# Altium footprint library IPC-SM-782 Section 9.4 TSSOP.PcbLib: 16 footprints
Each footprint in its own frame and in the unit in brackets; x right, y up, seen from the top. Pads: shape width x height; smd on the part's side, far side on the other; paste and mask are expansions set on the pad; w line width, h text height; cw(c..) or ccw(c..) is an arc to the next point about the centre after c.
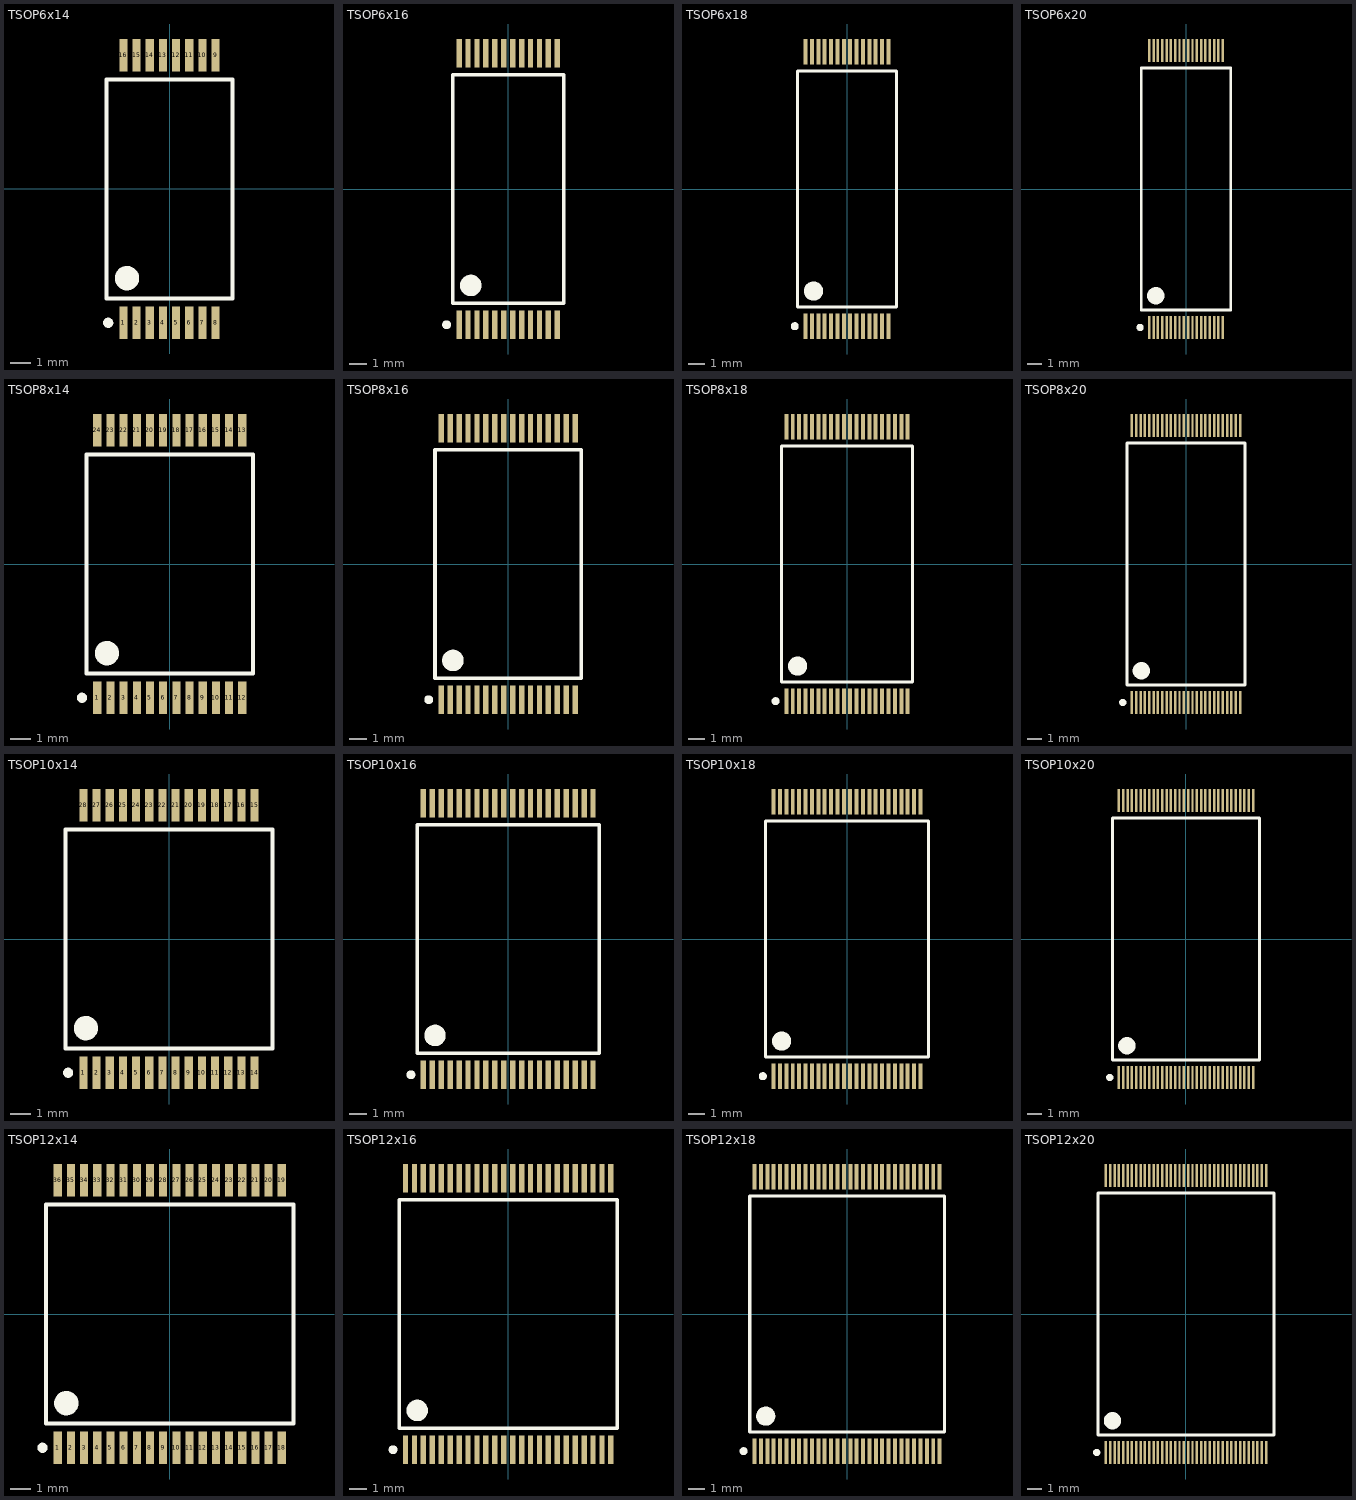
[diagram p0: the footprints below, top view; thin cyan lines are the x and y axes]

## TSOP6x14 [mm] "Shrink Small Outline; 16 Leads; Body Width 12.4 mm; Pitch 0.65 mm"
height 1.27
pads (16):
  rect 0.4x1.6 smd: 1(-2.275,-6.6) 2(-1.625,-6.6) 3(-0.975,-6.6) 4(-0.325,-6.6) 5(0.325,-6.6) 6(0.975,-6.6) 7(1.625,-6.6) 8(2.275,-6.6) 9(2.275,6.6) 10(1.625,6.6) 11(0.975,6.6) 12(0.325,6.6) 13(-0.325,6.6) 14(-0.975,6.6) 15(-1.625,6.6) 16(-2.275,6.6)
Top Overlay:
  circle w0.25: c-3.025,-6.6 r0.125
  circle w0.6: c-2.1,-4.4 r0.3
  lines w0.2: -3.1,-5.4 -3.1,-0.635 -3.1,5.4 3.1,5.4 3.1,-5.4 -3.1,-5.4

## TSOP6x16 [mm] "Shrink Small Outline; 24 Leads; Body Width 14.4 mm; Pitch 0.5 mm"
height 1.27
pads (24):
  rect 0.3x1.6 smd: 1(-2.75,-7.6) 2(-2.25,-7.6) 3(-1.75,-7.6) 4(-1.25,-7.6) 5(-0.75,-7.6) 6(-0.25,-7.6) 7(0.25,-7.6) 8(0.75,-7.6) 9(1.25,-7.6) 10(1.75,-7.6) 11(2.25,-7.6) 12(2.75,-7.6) 13(2.75,7.6) 14(2.25,7.6) 15(1.75,7.6) 16(1.25,7.6) 17(0.75,7.6) 18(0.25,7.6) 19(-0.25,7.6) 20(-0.75,7.6) 21(-1.25,7.6) 22(-1.75,7.6) 23(-2.25,7.6) 24(-2.75,7.6)
Top Overlay:
  circle w0.25: c-3.45,-7.6 r0.125
  circle w0.6: c-2.1,-5.4 r0.3
  lines w0.2: -3.1,-6.4 -3.1,-0.635 -3.1,6.4 3.1,6.4 3.1,-6.4 -3.1,-6.4

## TSOP6x18 [mm] "Shrink Small Outline; 28 Leads; Body Width 16.4 mm; Pitch 0.4 mm"
height 1.27
pads (28):
  rect 0.25x1.6 smd: 1(-2.6,-8.6) 2(-2.2,-8.6) 3(-1.8,-8.6) 4(-1.4,-8.6) 5(-1,-8.6) 6(-0.6,-8.6) 7(-0.2,-8.6) 8(0.2,-8.6) 9(0.6,-8.6) 10(1,-8.6) 11(1.4,-8.6) 12(1.8,-8.6) 13(2.2,-8.6) 14(2.6,-8.6) 15(2.6,8.6) 16(2.2,8.6) 17(1.8,8.6) 18(1.4,8.6) 19(1,8.6) 20(0.6,8.6) 21(0.2,8.6) 22(-0.2,8.6) 23(-0.6,8.6) 24(-1,8.6) 25(-1.4,8.6) 26(-1.8,8.6) 27(-2.2,8.6) 28(-2.6,8.6)
Top Overlay:
  circle w0.25: c-3.275,-8.6 r0.125
  circle w0.6: c-2.1,-6.4 r0.3
  lines w0.2: -3.1,-7.4 -3.1,-0.635 -3.1,7.4 3.1,7.4 3.1,-7.4 -3.1,-7.4

## TSOP6x20 [mm] "Shrink Small Outline; 36 Leads; Body Width 18.4 mm; Pitch 0.3 mm"
height 1.27
pads (36):
  rect 0.17x1.6 smd: 1(-2.55,-9.6) 2(-2.25,-9.6) 3(-1.95,-9.6) 4(-1.65,-9.6) 5(-1.35,-9.6) 6(-1.05,-9.6) 7(-0.75,-9.6) 8(-0.45,-9.6) 9(-0.15,-9.6) 10(0.15,-9.6) 11(0.45,-9.6) 12(0.75,-9.6) 13(1.05,-9.6) 14(1.35,-9.6) 15(1.65,-9.6) 16(1.95,-9.6) 17(2.25,-9.6) 18(2.55,-9.6) 19(2.55,9.6) 20(2.25,9.6) 21(1.95,9.6) 22(1.65,9.6) 23(1.35,9.6) 24(1.05,9.6) 25(0.75,9.6) 26(0.45,9.6) 27(0.15,9.6) 28(-0.15,9.6) 29(-0.45,9.6) 30(-0.75,9.6) 31(-1.05,9.6) 32(-1.35,9.6) 33(-1.65,9.6) 34(-1.95,9.6) 35(-2.25,9.6) 36(-2.55,9.6)
Top Overlay:
  circle w0.6: c-2.1,-7.4 r0.3
  circle w0.25: c-3.185,-9.6 r0.125
  lines w0.2: -3.1,-8.4 3.1,-8.4 3.1,8.4 -3.1,8.4 -3.1,-0.635 -3.1,-8.4

## TSOP8x14 [mm] "Shrink Small Outline; 24 Leads; Body Width 12.4 mm; Pitch 0.65 mm"
height 1.27
pads (24):
  rect 0.4x1.6 smd: 1(-3.575,-6.6) 2(-2.925,-6.6) 3(-2.275,-6.6) 4(-1.625,-6.6) 5(-0.975,-6.6) 6(-0.325,-6.6) 7(0.325,-6.6) 8(0.975,-6.6) 9(1.625,-6.6) 10(2.275,-6.6) 11(2.925,-6.6) 12(3.575,-6.6) 13(3.575,6.6) 14(2.925,6.6) 15(2.275,6.6) 16(1.625,6.6) 17(0.975,6.6) 18(0.325,6.6) 19(-0.325,6.6) 20(-0.975,6.6) 21(-1.625,6.6) 22(-2.275,6.6) 23(-2.925,6.6) 24(-3.575,6.6)
Top Overlay:
  circle w0.6: c-3.1,-4.4 r0.3
  circle w0.25: c-4.325,-6.6 r0.125
  lines w0.2: -4.1,-5.4 4.1,-5.4 4.1,5.4 -4.1,5.4 -4.1,-0.635 -4.1,-5.4

## TSOP8x16 [mm] "Shrink Small Outline; 32 Leads; Body Width 14.4 mm; Pitch 0.5 mm"
height 1.27
pads (32):
  rect 0.3x1.6 smd: 1(-3.75,-7.6) 2(-3.25,-7.6) 3(-2.75,-7.6) 4(-2.25,-7.6) 5(-1.75,-7.6) 6(-1.25,-7.6) 7(-0.75,-7.6) 8(-0.25,-7.6) 9(0.25,-7.6) 10(0.75,-7.6) 11(1.25,-7.6) 12(1.75,-7.6) 13(2.25,-7.6) 14(2.75,-7.6) 15(3.25,-7.6) 16(3.75,-7.6) 17(3.75,7.6) 18(3.25,7.6) 19(2.75,7.6) 20(2.25,7.6) 21(1.75,7.6) 22(1.25,7.6) 23(0.75,7.6) 24(0.25,7.6) 25(-0.25,7.6) 26(-0.75,7.6) 27(-1.25,7.6) 28(-1.75,7.6) 29(-2.25,7.6) 30(-2.75,7.6) 31(-3.25,7.6) 32(-3.75,7.6)
Top Overlay:
  circle w0.6: c-3.1,-5.4 r0.3
  circle w0.25: c-4.45,-7.6 r0.125
  lines w0.2: -4.1,-6.4 4.1,-6.4 4.1,6.4 -4.1,6.4 -4.1,-0.635 -4.1,-6.4

## TSOP8x18 [mm] "Shrink Small Outline; 40 Leads; Body Width 16.4 mm; Pitch 0.4 mm"
height 1.27
pads (40):
  rect 0.25x1.6 smd: 1(-3.8,-8.6) 2(-3.4,-8.6) 3(-3,-8.6) 4(-2.6,-8.6) 5(-2.2,-8.6) 6(-1.8,-8.6) 7(-1.4,-8.6) 8(-1,-8.6) 9(-0.6,-8.6) 10(-0.2,-8.6) 11(0.2,-8.6) 12(0.6,-8.6) 13(1,-8.6) 14(1.4,-8.6) 15(1.8,-8.6) 16(2.2,-8.6) 17(2.6,-8.6) 18(3,-8.6) 19(3.4,-8.6) 20(3.8,-8.6) 21(3.8,8.6) 22(3.4,8.6) 23(3,8.6) 24(2.6,8.6) 25(2.2,8.6) 26(1.8,8.6) 27(1.4,8.6) 28(1,8.6) 29(0.6,8.6) 30(0.2,8.6) 31(-0.2,8.6) 32(-0.6,8.6) 33(-1,8.6) 34(-1.4,8.6) 35(-1.8,8.6) 36(-2.2,8.6) 37(-2.6,8.6) 38(-3,8.6) 39(-3.4,8.6) 40(-3.8,8.6)
Top Overlay:
  circle w0.6: c-3.1,-6.4 r0.3
  circle w0.25: c-4.475,-8.6 r0.125
  lines w0.2: -4.1,-7.4 4.1,-7.4 4.1,7.4 -4.1,7.4 -4.1,-0.635 -4.1,-7.4

## TSOP8x20 [mm] "Shrink Small Outline; 52 Leads; Body Width 18.4 mm; Pitch 0.3 mm"
height 1.27
pads (52):
  rect 0.17x1.6 smd: 1(-3.75,-9.6) 2(-3.45,-9.6) 3(-3.15,-9.6) 4(-2.85,-9.6) 5(-2.55,-9.6) 6(-2.25,-9.6) 7(-1.95,-9.6) 8(-1.65,-9.6) 9(-1.35,-9.6) 10(-1.05,-9.6) 11(-0.75,-9.6) 12(-0.45,-9.6) 13(-0.15,-9.6) 14(0.15,-9.6) 15(0.45,-9.6) 16(0.75,-9.6) 17(1.05,-9.6) 18(1.35,-9.6) 19(1.65,-9.6) 20(1.95,-9.6) 21(2.25,-9.6) 22(2.55,-9.6) 23(2.85,-9.6) 24(3.15,-9.6) 25(3.45,-9.6) 26(3.75,-9.6) 27(3.75,9.6) 28(3.45,9.6) 29(3.15,9.6) 30(2.85,9.6) 31(2.55,9.6) 32(2.25,9.6) 33(1.95,9.6) 34(1.65,9.6) 35(1.35,9.6) 36(1.05,9.6) 37(0.75,9.6) 38(0.45,9.6) 39(0.15,9.6) 40(-0.15,9.6) 41(-0.45,9.6) 42(-0.75,9.6) 43(-1.05,9.6) 44(-1.35,9.6) 45(-1.65,9.6) 46(-1.95,9.6) 47(-2.25,9.6) 48(-2.55,9.6) 49(-2.85,9.6) 50(-3.15,9.6) 51(-3.45,9.6) 52(-3.75,9.6)
Top Overlay:
  circle w0.25: c-4.385,-9.6 r0.125
  circle w0.6: c-3.1,-7.4 r0.3
  lines w0.2: -4.1,-8.4 -4.1,-0.635 -4.1,8.4 4.1,8.4 4.1,-8.4 -4.1,-8.4

## TSOP10x14 [mm] "Shrink Small Outline; 28 Leads; Body Width 12.4 mm; Pitch 0.65 mm"
height 1.27
pads (28):
  rect 0.4x1.6 smd: 1(-4.225,-6.6) 2(-3.575,-6.6) 3(-2.925,-6.6) 4(-2.275,-6.6) 5(-1.625,-6.6) 6(-0.975,-6.6) 7(-0.325,-6.6) 8(0.325,-6.6) 9(0.975,-6.6) 10(1.625,-6.6) 11(2.275,-6.6) 12(2.925,-6.6) 13(3.575,-6.6) 14(4.225,-6.6) 15(4.225,6.6) 16(3.575,6.6) 17(2.925,6.6) 18(2.275,6.6) 19(1.625,6.6) 20(0.975,6.6) 21(0.325,6.6) 22(-0.325,6.6) 23(-0.975,6.6) 24(-1.625,6.6) 25(-2.275,6.6) 26(-2.925,6.6) 27(-3.575,6.6) 28(-4.225,6.6)
Top Overlay:
  circle w0.6: c-4.1,-4.4 r0.3
  circle w0.25: c-4.975,-6.6 r0.125
  lines w0.2: -5.1,-5.4 5.1,-5.4 5.1,5.4 -5.1,5.4 -5.1,-0.635 -5.1,-5.4

## TSOP10x16 [mm] "Shrink Small Outline; 40 Leads; Body Width 14.4 mm; Pitch 0.5 mm"
height 1.27
pads (40):
  rect 0.3x1.6 smd: 1(-4.75,-7.6) 2(-4.25,-7.6) 3(-3.75,-7.6) 4(-3.25,-7.6) 5(-2.75,-7.6) 6(-2.25,-7.6) 7(-1.75,-7.6) 8(-1.25,-7.6) 9(-0.75,-7.6) 10(-0.25,-7.6) 11(0.25,-7.6) 12(0.75,-7.6) 13(1.25,-7.6) 14(1.75,-7.6) 15(2.25,-7.6) 16(2.75,-7.6) 17(3.25,-7.6) 18(3.75,-7.6) 19(4.25,-7.6) 20(4.75,-7.6) 21(4.75,7.6) 22(4.25,7.6) 23(3.75,7.6) 24(3.25,7.6) 25(2.75,7.6) 26(2.25,7.6) 27(1.75,7.6) 28(1.25,7.6) 29(0.75,7.6) 30(0.25,7.6) 31(-0.25,7.6) 32(-0.75,7.6) 33(-1.25,7.6) 34(-1.75,7.6) 35(-2.25,7.6) 36(-2.75,7.6) 37(-3.25,7.6) 38(-3.75,7.6) 39(-4.25,7.6) 40(-4.75,7.6)
Top Overlay:
  circle w0.25: c-5.45,-7.6 r0.125
  circle w0.6: c-4.1,-5.4 r0.3
  lines w0.2: -5.1,-6.4 -5.1,-0.635 -5.1,6.4 5.1,6.4 5.1,-6.4 -5.1,-6.4

## TSOP10x18 [mm] "Shrink Small Outline; 48 Leads; Body Width 16.4 mm; Pitch 0.4 mm"
height 1.27
pads (48):
  rect 0.25x1.6 smd: 1(-4.6,-8.6) 2(-4.2,-8.6) 3(-3.8,-8.6) 4(-3.4,-8.6) 5(-3,-8.6) 6(-2.6,-8.6) 7(-2.2,-8.6) 8(-1.8,-8.6) 9(-1.4,-8.6) 10(-1,-8.6) 11(-0.6,-8.6) 12(-0.2,-8.6) 13(0.2,-8.6) 14(0.6,-8.6) 15(1,-8.6) 16(1.4,-8.6) 17(1.8,-8.6) 18(2.2,-8.6) 19(2.6,-8.6) 20(3,-8.6) 21(3.4,-8.6) 22(3.8,-8.6) 23(4.2,-8.6) 24(4.6,-8.6) 25(4.6,8.6) 26(4.2,8.6) 27(3.8,8.6) 28(3.4,8.6) 29(3,8.6) 30(2.6,8.6) 31(2.2,8.6) 32(1.8,8.6) 33(1.4,8.6) 34(1,8.6) 35(0.6,8.6) 36(0.2,8.6) 37(-0.2,8.6) 38(-0.6,8.6) 39(-1,8.6) 40(-1.4,8.6) 41(-1.8,8.6) 42(-2.2,8.6) 43(-2.6,8.6) 44(-3,8.6) 45(-3.4,8.6) 46(-3.8,8.6) 47(-4.2,8.6) 48(-4.6,8.6)
Top Overlay:
  circle w0.6: c-4.1,-6.4 r0.3
  circle w0.25: c-5.275,-8.6 r0.125
  lines w0.2: -5.1,-7.4 5.1,-7.4 5.1,7.4 -5.1,7.4 -5.1,-0.635 -5.1,-7.4

## TSOP10x20 [mm] "Shrink Small Outline; 64 Leads; Body Width 18.4 mm; Pitch 0.3 mm"
height 1.27
pads (64):
  rect 0.17x1.6 smd: 1(-4.65,-9.6) 2(-4.35,-9.6) 3(-4.05,-9.6) 4(-3.75,-9.6) 5(-3.45,-9.6) 6(-3.15,-9.6) 7(-2.85,-9.6) 8(-2.55,-9.6) 9(-2.25,-9.6) 10(-1.95,-9.6) 11(-1.65,-9.6) 12(-1.35,-9.6) 13(-1.05,-9.6) 14(-0.75,-9.6) 15(-0.45,-9.6) 16(-0.15,-9.6) 17(0.15,-9.6) 18(0.45,-9.6) 19(0.75,-9.6) 20(1.05,-9.6) 21(1.35,-9.6) 22(1.65,-9.6) 23(1.95,-9.6) 24(2.25,-9.6) 25(2.55,-9.6) 26(2.85,-9.6) 27(3.15,-9.6) 28(3.45,-9.6) 29(3.75,-9.6) 30(4.05,-9.6) 31(4.35,-9.6) 32(4.65,-9.6) 33(4.65,9.6) 34(4.35,9.6) 35(4.05,9.6) 36(3.75,9.6) 37(3.45,9.6) 38(3.15,9.6) 39(2.85,9.6) 40(2.55,9.6) 41(2.25,9.6) 42(1.95,9.6) 43(1.65,9.6) 44(1.35,9.6) 45(1.05,9.6) 46(0.75,9.6) 47(0.45,9.6) 48(0.15,9.6) 49(-0.15,9.6) 50(-0.45,9.6) 51(-0.75,9.6) 52(-1.05,9.6) 53(-1.35,9.6) 54(-1.65,9.6) 55(-1.95,9.6) 56(-2.25,9.6) 57(-2.55,9.6) 58(-2.85,9.6) 59(-3.15,9.6) 60(-3.45,9.6) 61(-3.75,9.6) 62(-4.05,9.6) 63(-4.35,9.6) 64(-4.65,9.6)
Top Overlay:
  circle w0.6: c-4.1,-7.4 r0.3
  circle w0.25: c-5.285,-9.6 r0.125
  lines w0.2: -5.1,-8.4 5.1,-8.4 5.1,8.4 -5.1,8.4 -5.1,-0.635 -5.1,-8.4

## TSOP12x14 [mm] "Shrink Small Outline; 36 Leads; Body Width 12.4 mm; Pitch 0.65 mm"
height 1.27
pads (36):
  rect 0.4x1.6 smd: 1(-5.525,-6.6) 2(-4.875,-6.6) 3(-4.225,-6.6) 4(-3.575,-6.6) 5(-2.925,-6.6) 6(-2.275,-6.6) 7(-1.625,-6.6) 8(-0.975,-6.6) 9(-0.325,-6.6) 10(0.325,-6.6) 11(0.975,-6.6) 12(1.625,-6.6) 13(2.275,-6.6) 14(2.925,-6.6) 15(3.575,-6.6) 16(4.225,-6.6) 17(4.875,-6.6) 18(5.525,-6.6) 19(5.525,6.6) 20(4.875,6.6) 21(4.225,6.6) 22(3.575,6.6) 23(2.925,6.6) 24(2.275,6.6) 25(1.625,6.6) 26(0.975,6.6) 27(0.325,6.6) 28(-0.325,6.6) 29(-0.975,6.6) 30(-1.625,6.6) 31(-2.275,6.6) 32(-2.925,6.6) 33(-3.575,6.6) 34(-4.225,6.6) 35(-4.875,6.6) 36(-5.525,6.6)
Top Overlay:
  circle w0.6: c-5.1,-4.4 r0.3
  circle w0.25: c-6.275,-6.6 r0.125
  lines w0.2: -6.1,-5.4 6.1,-5.4 6.1,5.4 -6.1,5.4 -6.1,-0.635 -6.1,-5.4

## TSOP12x16 [mm] "Shrink Small Outline; 48 Leads; Body Width 14.4 mm; Pitch 0.5 mm"
height 1.27
pads (48):
  rect 0.3x1.6 smd: 1(-5.75,-7.6) 2(-5.25,-7.6) 3(-4.75,-7.6) 4(-4.25,-7.6) 5(-3.75,-7.6) 6(-3.25,-7.6) 7(-2.75,-7.6) 8(-2.25,-7.6) 9(-1.75,-7.6) 10(-1.25,-7.6) 11(-0.75,-7.6) 12(-0.25,-7.6) 13(0.25,-7.6) 14(0.75,-7.6) 15(1.25,-7.6) 16(1.75,-7.6) 17(2.25,-7.6) 18(2.75,-7.6) 19(3.25,-7.6) 20(3.75,-7.6) 21(4.25,-7.6) 22(4.75,-7.6) 23(5.25,-7.6) 24(5.75,-7.6) 25(5.75,7.6) 26(5.25,7.6) 27(4.75,7.6) 28(4.25,7.6) 29(3.75,7.6) 30(3.25,7.6) 31(2.75,7.6) 32(2.25,7.6) 33(1.75,7.6) 34(1.25,7.6) 35(0.75,7.6) 36(0.25,7.6) 37(-0.25,7.6) 38(-0.75,7.6) 39(-1.25,7.6) 40(-1.75,7.6) 41(-2.25,7.6) 42(-2.75,7.6) 43(-3.25,7.6) 44(-3.75,7.6) 45(-4.25,7.6) 46(-4.75,7.6) 47(-5.25,7.6) 48(-5.75,7.6)
Top Overlay:
  circle w0.25: c-6.45,-7.6 r0.125
  circle w0.6: c-5.1,-5.4 r0.3
  lines w0.2: -6.1,-6.4 -6.1,-0.635 -6.1,6.4 6.1,6.4 6.1,-6.4 -6.1,-6.4

## TSOP12x18 [mm] "Shrink Small Outline; 60 Leads; Body Width 16.4 mm; Pitch 0.4 mm"
height 1.27
pads (60):
  rect 0.25x1.6 smd: 1(-5.8,-8.6) 2(-5.4,-8.6) 3(-5,-8.6) 4(-4.6,-8.6) 5(-4.2,-8.6) 6(-3.8,-8.6) 7(-3.4,-8.6) 8(-3,-8.6) 9(-2.6,-8.6) 10(-2.2,-8.6) 11(-1.8,-8.6) 12(-1.4,-8.6) 13(-1,-8.6) 14(-0.6,-8.6) 15(-0.2,-8.6) 16(0.2,-8.6) 17(0.6,-8.6) 18(1,-8.6) 19(1.4,-8.6) 20(1.8,-8.6) 21(2.2,-8.6) 22(2.6,-8.6) 23(3,-8.6) 24(3.4,-8.6) 25(3.8,-8.6) 26(4.2,-8.6) 27(4.6,-8.6) 28(5,-8.6) 29(5.4,-8.6) 30(5.8,-8.6) 31(5.8,8.6) 32(5.4,8.6) 33(5,8.6) 34(4.6,8.6) 35(4.2,8.6) 36(3.8,8.6) 37(3.4,8.6) 38(3,8.6) 39(2.6,8.6) 40(2.2,8.6) 41(1.8,8.6) 42(1.4,8.6) 43(1,8.6) 44(0.6,8.6) 45(0.2,8.6) 46(-0.2,8.6) 47(-0.6,8.6) 48(-1,8.6) 49(-1.4,8.6) 50(-1.8,8.6) 51(-2.2,8.6) 52(-2.6,8.6) 53(-3,8.6) 54(-3.4,8.6) 55(-3.8,8.6) 56(-4.2,8.6) 57(-4.6,8.6) 58(-5,8.6) 59(-5.4,8.6) 60(-5.8,8.6)
Top Overlay:
  circle w0.6: c-5.1,-6.4 r0.3
  circle w0.25: c-6.485,-8.6 r0.125
  lines w0.2: -6.1,-7.4 6.1,-7.4 6.1,7.4 -6.1,7.4 -6.1,-0.635 -6.1,-7.4

## TSOP12x20 [mm] "Shrink Small Outline; 76 Leads; Body Width 18.4 mm; Pitch 0.3 mm"
height 1.27
pads (76):
  rect 0.17x1.6 smd: 1(-5.55,-9.6) 2(-5.25,-9.6) 3(-4.95,-9.6) 4(-4.65,-9.6) 5(-4.35,-9.6) 6(-4.05,-9.6) 7(-3.75,-9.6) 8(-3.45,-9.6) 9(-3.15,-9.6) 10(-2.85,-9.6) 11(-2.55,-9.6) 12(-2.25,-9.6) 13(-1.95,-9.6) 14(-1.65,-9.6) 15(-1.35,-9.6) 16(-1.05,-9.6) 17(-0.75,-9.6) 18(-0.45,-9.6) 19(-0.15,-9.6) 20(0.15,-9.6) 21(0.45,-9.6) 22(0.75,-9.6) 23(1.05,-9.6) 24(1.35,-9.6) 25(1.65,-9.6) 26(1.95,-9.6) 27(2.25,-9.6) 28(2.55,-9.6) 29(2.85,-9.6) 30(3.15,-9.6) 31(3.45,-9.6) 32(3.75,-9.6) 33(4.05,-9.6) 34(4.35,-9.6) 35(4.65,-9.6) 36(4.95,-9.6) 37(5.25,-9.6) 38(5.55,-9.6) 39(5.55,9.6) 40(5.25,9.6) 41(4.95,9.6) 42(4.65,9.6) 43(4.35,9.6) 44(4.05,9.6) 45(3.75,9.6) 46(3.45,9.6) 47(3.15,9.6) 48(2.85,9.6) 49(2.55,9.6) 50(2.25,9.6) 51(1.95,9.6) 52(1.65,9.6) 53(1.35,9.6) 54(1.05,9.6) 55(0.75,9.6) 56(0.45,9.6) 57(0.15,9.6) 58(-0.15,9.6) 59(-0.45,9.6) 60(-0.75,9.6) 61(-1.05,9.6) 62(-1.35,9.6) 63(-1.65,9.6) 64(-1.95,9.6) 65(-2.25,9.6) 66(-2.55,9.6) 67(-2.85,9.6) 68(-3.15,9.6) 69(-3.45,9.6) 70(-3.75,9.6) 71(-4.05,9.6) 72(-4.35,9.6) 73(-4.65,9.6) 74(-4.95,9.6) 75(-5.25,9.6) 76(-5.55,9.6)
Top Overlay:
  circle w0.25: c-6.195,-9.6 r0.125
  circle w0.6: c-5.1,-7.4 r0.3
  lines w0.2: -6.1,-8.4 -6.1,-0.635 -6.1,8.4 6.1,8.4 6.1,-8.4 -6.1,-8.4